# Altium schematic symbol library PDU_YEDEK.SchLib: 83 symbols (part 9 of 10)
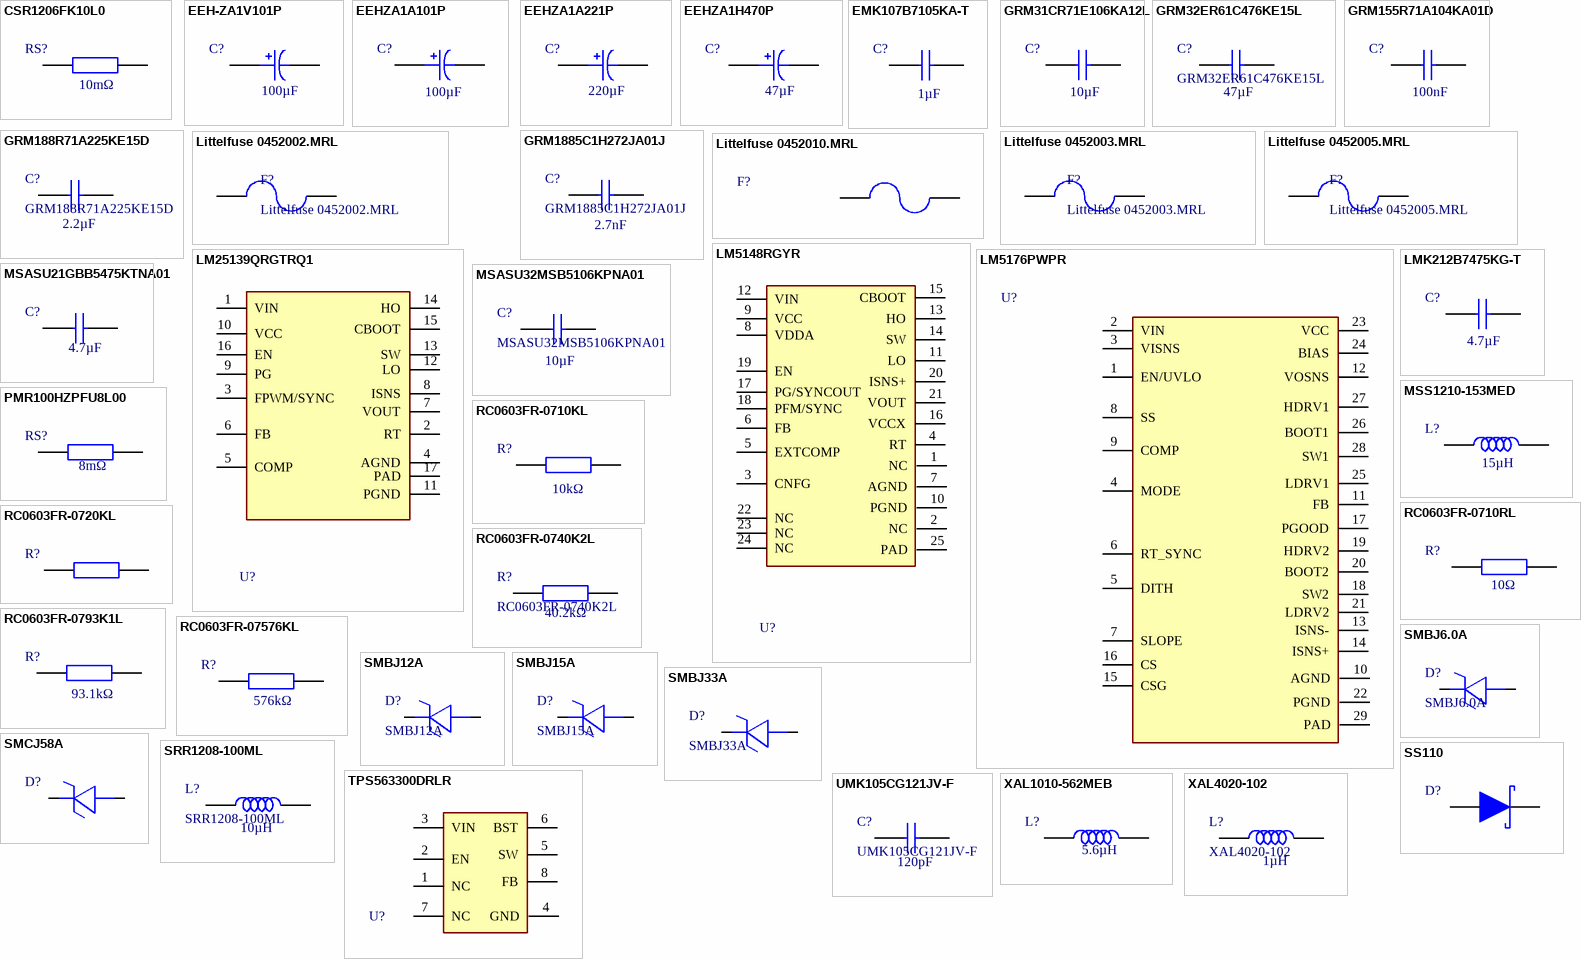
[diagram p10: symbols CSR1206FK10L0 to XAL4020‑102]

## RC0603FR-0793K1L
designator R?  value 93.1kΩ  (hidden comment: RC0603FR-0793K1L)
Res Thick Film 0603 93.1K Ohm 1% 0.1W(1/10W) ±100ppm/C Pad SMD T/R; Manufacturer: Yageo Group; Max Power Dissipation: 100mW; Temperature Coefficient: 100ppm/°C; Voltage Rating: 75V; Voltage Rating (DC): 50V; Supplier: Farnell; Supplier Part Number: RC0603FR-0793K1L; Manufacturer Part Number: RC0603FR-0793K1L; RoHS: Compliant; Category: Chip SMD Resistors; Stock: 4877; Pricing: 10=0,0061, 100=0,0052, 500=0,0049, 1000=0,0046, 2500=0,0036 (EUR); Case/Package: 0603; Case Code (Imperial): 0603; China RoHS: Non-Compliant; Composition: Thick Film; Contact Plating: Tin; Depth: 800µm; Features: Moisture Resistant; Height: 450µm; Lead Free: Lead Free; Length: 1.6mm; Lifecycle Status: Production; Max Operating Temperature: 155°C; Military Standard: Not; Min Operating Temperature: -55°C; Mounting Technology: Surface Mount; Number of Terminals: 2; Number of Terminations: 2; Packaging: Tape & Reel; Power Rating: 100mW; Radiation Hardening: No; REACH SVHC: Yes; Schedule B: 8533210045, 8533210045|8533210045|8533210045|8533210045|8533210045; Termination: SMD/SMT; Tolerance: 1%; Width: 800µm; Working Voltage: 75V; ComponentLink1URL: https://datasheet.octopart.com:443/RC0603FR-0793K1L-Yageo-datasheet-175887523.pdf?src-supplier=Newark; ComponentLink1Description: https://datasheet.octopart.com:443/RC0603FR-0793K1L-Yageo-datasheet-175887523.pdf?src-supplier=Newark; ComponentLink2URL: https://datasheet.octopart.com:443/RC0603FR-0793K1L-Yageo-datasheet-103092701.pdf?src-supplier=Upverter; ComponentLink2Description: https://datasheet.octopart.com:443/RC0603FR-0793K1L-Yageo-datasheet-103092701.pdf?src-supplier=Upverter; ComponentLink3URL: https://datasheet.octopart.com:443/RC0603FR-0793K1L-Yageo-datasheet-8328172.pdf?src-supplier=_legacy+Avnet; ComponentLink3Description: https://datasheet.octopart.com:443/RC0603FR-0793K1L-Yageo-datasheet-8328172.pdf?src-supplier=_legacy+Avnet; ComponentLink4URL: https://datasheet.octopart.com:443/RC0603FR-0793K1L-Yageo-Group-datasheet-176638170.pdf?src-supplier=Future+Electronics; ComponentLink4Description: https://datasheet.octopart.com:443/RC0603FR-0793K1L-Yageo-Group-datasheet-176638170.pdf?src-supplier=Future+Electronics; ComponentLink5URL: https://datasheet.octopart.com:443/RC0603FR-0793K1L-Yageo-datasheet-164759695.pdf?src-supplier=Future+Electronics; ComponentLink5Description: https://datasheet.octopart.com:443/RC0603FR-0793K1L-Yageo-datasheet-164759695.pdf?src-supplier=Future+Electronics; ComponentLink6URL: https://datasheet.octopart.com:443/RC0603FR-0793K1L-Yageo-datasheet-137700087.pdf?src-supplier=Future+Electronics; ComponentLink6Description: https://datasheet.octopart.com:443/RC0603FR-0793K1L-Yageo-datasheet-137700087.pdf?src-supplier=Future+Electronics; ComponentLink7URL: https://datasheet.octopart.com:443/RC0603FR-0793K1L-Yageo-datasheet-15599030.pdf?src-supplier=Future+Electronics; ComponentLink7Description: https://datasheet.octopart.com:443/RC0603FR-0793K1L-Yageo-datasheet-15599030.pdf?src-supplier=Future+Electronics; ComponentLink8URL: https://datasheet.octopart.com:443/RC0603FR-0793K1L-Yageo-datasheet-12596169.pdf?src-supplier=Future+Electronics; ComponentLink8Description: https://datasheet.octopart.com:443/RC0603FR-0793K1L-Yageo-datasheet-12596169.pdf?src-supplier=Future+Electronics; ComponentLink9URL: https://datasheet.octopart.com:443/RC0603FR-0793K1L-Yageo-datasheet-79472498.pdf?src-supplier=Megastar; ComponentLink9Description: https://datasheet.octopart.com:443/RC0603FR-0793K1L-Yageo-datasheet-79472498.pdf?src-supplier=Megastar; ComponentLink10URL: https://datasheet.octopart.com/RC0603FR-0793K1L-Yageo-datasheet-73766026.pdf; ComponentLink10Description: https://datasheet.octopart.com/RC0603FR-0793K1L-Yageo-datasheet-73766026.pdf; ComponentLink11URL: https://datasheet.octopart.com:443/RC0603FR-0793K1L-Yageo-datasheet-118562.pdf?src-supplier=DigiKey; ComponentLink11Description: https://datasheet.octopart.com:443/RC0603FR-0793K1L-Yageo-datasheet-118562.pdf?src-supplier=DigiKey; ComponentLink12URL: http://sigma.octopart.com:80/conflict_mineral_statement/Yageo-company-3.pdf?src-supplier=Compliance+Statements; ComponentLink12Description: http://sigma.octopart.com:80/conflict_mineral_statement/Yageo-company-3.pdf?src-supplier=Compliance+Statements; ComponentLink13URL: http://sigma.octopart.com:80/rohs_statement/Yageo-company-2.pdf?src-supplier=Compliance+Statements; ComponentLink13Description: http://sigma.octopart.com:80/rohs_statement/Yageo-company-2.pdf?src-supplier=Compliance+Statements
pins: 1, 2

## RC0603FR-07576KL
designator R?  value 576kΩ  (hidden comment: RC0603FR-07576KL)
Res Thick Film 0603 576K Ohm 1% 0.1W(1/10W) ±100ppm/C Pad SMD T/R; Manufacturer: Yageo Group; Max Power Dissipation: 100mW; Temperature Coefficient: 100ppm/°C; Voltage Rating: 75V; Voltage Rating (DC): 50V; Supplier: Farnell; Supplier Part Number: RC0603FR-07576KL; Manufacturer Part Number: RC0603FR-07576KL; RoHS: Compliant; Category: Chip SMD Resistors; Stock: 6680; Pricing: 10=0,0057, 100=0,0047, 500=0,0045, 1000=0,0044, 2500=0,0042 (EUR); Case/Package: 0603; Case Code (Imperial): 0603; China RoHS: Non-Compliant; Composition: Thick Film; Contact Plating: Tin; Depth: 800µm; Features: Moisture Resistant; Height: 450µm; Lead Free: Lead Free; Length: 1.6mm; Lifecycle Status: Production; Max Operating Temperature: 155°C; Military Standard: Not; Min Operating Temperature: -55°C; Mounting Technology: Surface Mount; Number of Terminals: 2; Number of Terminations: 2; Power Rating: 100mW; REACH SVHC: Yes; Schedule B: 8533210045, 8533210045|8533210045|8533210045|8533210045|8533210045|8533210045|8533210045|8533210045|8533210045|8533210045|8533210045|8533210045|8533210045, 8533210045|8533210045|8533210045|8533210045|8533210045|8533210045|8533210045|8533210045|8533210045|8533210045|8533210045|8533210045|8533210045|8533210045, 8533210045|8533210045|8533210045|8533210045|8533210045|8533210045|8533210045|8533210045|8533210045|8533210045|8533210045|8533210045|8533210045|8533210045|8533210045; Termination: SMD/SMT; Tolerance: 1%; Width: 800µm; Working Voltage: 75V; ComponentLink1URL: https://datasheet.octopart.com:443/RC0603FR-07576KL-Yageo-datasheet-175887523.pdf?src-supplier=IHS; ComponentLink1Description: https://datasheet.octopart.com:443/RC0603FR-07576KL-Yageo-datasheet-175887523.pdf?src-supplier=IHS; ComponentLink2URL: https://datasheet.octopart.com:443/RC0603FR-07576KL-Yageo-datasheet-103092701.pdf?src-supplier=Upverter; ComponentLink2Description: https://datasheet.octopart.com:443/RC0603FR-07576KL-Yageo-datasheet-103092701.pdf?src-supplier=Upverter; ComponentLink3URL: https://datasheet.octopart.com:443/RC0603FR-07576KL-Yageo-datasheet-8328172.pdf?src-supplier=_legacy+Avnet; ComponentLink3Description: https://datasheet.octopart.com:443/RC0603FR-07576KL-Yageo-datasheet-8328172.pdf?src-supplier=_legacy+Avnet; ComponentLink4URL: https://datasheet.octopart.com:443/RC0603FR-07576KL-Yageo-Group-datasheet-176638170.pdf?src-supplier=Future+Electronics; ComponentLink4Description: https://datasheet.octopart.com:443/RC0603FR-07576KL-Yageo-Group-datasheet-176638170.pdf?src-supplier=Future+Electronics; ComponentLink5URL: https://datasheet.octopart.com:443/RC0603FR-07576KL-Yageo-datasheet-164759695.pdf?src-supplier=Future+Electronics; ComponentLink5Description: https://datasheet.octopart.com:443/RC0603FR-07576KL-Yageo-datasheet-164759695.pdf?src-supplier=Future+Electronics; ComponentLink6URL: https://datasheet.octopart.com:443/RC0603FR-07576KL-Yageo-datasheet-127823281.pdf?src-supplier=Future+Electronics; ComponentLink6Description: https://datasheet.octopart.com:443/RC0603FR-07576KL-Yageo-datasheet-127823281.pdf?src-supplier=Future+Electronics; ComponentLink7URL: https://datasheet.octopart.com:443/RC0603FR-07576KL-Yageo-datasheet-137700087.pdf?src-supplier=Future+Electronics; ComponentLink7Description: https://datasheet.octopart.com:443/RC0603FR-07576KL-Yageo-datasheet-137700087.pdf?src-supplier=Future+Electronics; ComponentLink8URL: https://datasheet.octopart.com:443/RC0603FR-07576KL-Yageo-datasheet-17842380.pdf?src-supplier=Future+Electronics; ComponentLink8Description: https://datasheet.octopart.com:443/RC0603FR-07576KL-Yageo-datasheet-17842380.pdf?src-supplier=Future+Electronics; ComponentLink9URL: https://datasheet.octopart.com:443/RC0603FR-07576KL-Yageo-datasheet-15599030.pdf?src-supplier=Future+Electronics; ComponentLink9Description: https://datasheet.octopart.com:443/RC0603FR-07576KL-Yageo-datasheet-15599030.pdf?src-supplier=Future+Electronics; ComponentLink10URL: https://datasheet.octopart.com:443/RC0603FR-07576KL-Yageo-datasheet-12596169.pdf?src-supplier=Future+Electronics; ComponentLink10Description: https://datasheet.octopart.com:443/RC0603FR-07576KL-Yageo-datasheet-12596169.pdf?src-supplier=Future+Electronics; ComponentLink11URL: https://datasheet.octopart.com/RC0603FR-07576KL-Yageo-datasheet-73766026.pdf; ComponentLink11Description: https://datasheet.octopart.com/RC0603FR-07576KL-Yageo-datasheet-73766026.pdf; ComponentLink12URL: https://datasheet.octopart.com:443/RC0603FR-07576KL-Yageo-datasheet-118562.pdf?src-supplier=DigiKey; ComponentLink12Description: https://datasheet.octopart.com:443/RC0603FR-07576KL-Yageo-datasheet-118562.pdf?src-supplier=DigiKey; ComponentLink13URL: http://sigma.octopart.com:80/conflict_mineral_statement/Yageo-company-3.pdf?src-supplier=Compliance+Statements; ComponentLink13Description: http://sigma.octopart.com:80/conflict_mineral_statement/Yageo-company-3.pdf?src-supplier=Compliance+Statements; ComponentLink14URL: http://sigma.octopart.com:80/rohs_statement/Yageo-company-2.pdf?src-supplier=Compliance+Statements; ComponentLink14Description: http://sigma.octopart.com:80/rohs_statement/Yageo-company-2.pdf?src-supplier=Compliance+Statements
pins: 1, 2

## SMBJ6.0A
designator D?
SMBJ Series 10.3 V 0.6 kW Surface Mount Uni-Directional TVS Diode - DO-214AA; Manufacturer: Littelfuse; Breakdown Voltage: 7.02V; Clamping Voltage: 10.3V; Direction: Unidirectional; Element Configuration: Single; Forward Voltage: 3.5V; Leakage Current: 1µA; Max Breakdown Voltage: 7.37V; Max Junction Temperature (Tj): 150°C; Max Power Dissipation: 5W; Max Reverse Leakage Current: 800µA; Max Surge Current: 6.2A; Min Breakdown Voltage: 6.67V; Number of Channels: 1; Operating Supply Voltage: 60V; Peak Pulse Current: 58.3A; Peak Pulse Power: 600W; Power Line Protection: No; Reverse Breakdown Voltage: 66.7V; Reverse Standoff Voltage: 6V; Test Current: 10mA; Supplier: Farnell; Supplier Part Number: SMBJ6.0A; Manufacturer Part Number: SMBJ6.0A; RoHS: Compliant; Category: TVS Diodes; Stock: 3000; Pricing: 3000=0,127, 9000=0,111 (EUR); Case/Package: SMB; China RoHS: Non-Compliant; Composition: Zener; Height: 2.61mm; Lead Free: Lead Free; Length: 4.57mm; Lifecycle Status: Production; Max Operating Temperature: 150°C; Min Operating Temperature: -65°C; Mounting Technology: Surface Mount; Number of Elements: 1; Pins: 2; Number of Terminals: 2; Number of Unidirectional Channels: 1; Packaging: Tape & Reel; Peak Reverse Current: 800µA; Polarity: Unidirectional; Power Rating: 600W; Radiation Hardening: No; REACH SVHC: No; Reverse Voltage: 6V; Schedule B: 8541100080, 8541100080|8541100080|8541100080|8541100080|8541100080; Termination: SMD/SMT; Voltage Rating (DC): 6V; Width: 3.94mm; ComponentLink1URL: https://datasheet.octopart.com:443/SMBJ6.0A-Littelfuse-datasheet-180609570.pdf?src-supplier=IHS; ComponentLink1Description: https://datasheet.octopart.com:443/SMBJ6.0A-Littelfuse-datasheet-180609570.pdf?src-supplier=IHS; ComponentLink2URL: https://datasheet.octopart.com:443/SMBJ6.0A-Littelfuse-datasheet-98958142.pdf?src-supplier=Littelfuse+SCT; ComponentLink2Description: https://datasheet.octopart.com:443/SMBJ6.0A-Littelfuse-datasheet-98958142.pdf?src-supplier=Littelfuse+SCT; ComponentLink3URL: https://datasheet.octopart.com:443/SMBJ6.0A-Littelfuse-datasheet-10854588.pdf?src-supplier=TME; ComponentLink3Description: https://datasheet.octopart.com:443/SMBJ6.0A-Littelfuse-datasheet-10854588.pdf?src-supplier=TME; ComponentLink4URL: https://datasheet.octopart.com:443/SMBJ6.0A-Littelfuse-datasheet-123574.pdf?src-supplier=Farnell; ComponentLink4Description: https://datasheet.octopart.com:443/SMBJ6.0A-Littelfuse-datasheet-123574.pdf?src-supplier=Farnell; ComponentLink5URL: https://datasheet.octopart.com:443/SMBJ6.0A-Littelfuse-datasheet-63710821.pdf?src-supplier=Farnell; ComponentLink5Description: https://datasheet.octopart.com:443/SMBJ6.0A-Littelfuse-datasheet-63710821.pdf?src-supplier=Farnell; ComponentLink6URL: https://datasheet.octopart.com:443/SMBJ6.0A-Littelfuse-datasheet-145017494.pdf?src-supplier=element14+APAC; ComponentLink6Description: https://datasheet.octopart.com:443/SMBJ6.0A-Littelfuse-datasheet-145017494.pdf?src-supplier=element14+APAC; ComponentLink7URL: https://datasheet.octopart.com:443/SMBJ6.0A-Littelfuse-datasheet-165289144.pdf?src-supplier=Electro+Sonic; ComponentLink7Description: https://datasheet.octopart.com:443/SMBJ6.0A-Littelfuse-datasheet-165289144.pdf?src-supplier=Electro+Sonic; ComponentLink8URL: https://datasheet.octopart.com:443/SMBJ6.0A-Littelfuse-datasheet-27889791.pdf?src-supplier=Future+Electronics; ComponentLink8Description: https://datasheet.octopart.com:443/SMBJ6.0A-Littelfuse-datasheet-27889791.pdf?src-supplier=Future+Electronics; ComponentLink9URL: https://datasheet.octopart.com:443/SMBJ6.0A-Littelfuse-datasheet-5319440.pdf?src-supplier=Future+Electronics; ComponentLink9Description: https://datasheet.octopart.com:443/SMBJ6.0A-Littelfuse-datasheet-5319440.pdf?src-supplier=Future+Electronics; ComponentLink10URL: https://datasheet.octopart.com:443/SMBJ6.0A-Littelfuse-datasheet-11547152.pdf?src-supplier=Future+Electronics; ComponentLink10Description: https://datasheet.octopart.com:443/SMBJ6.0A-Littelfuse-datasheet-11547152.pdf?src-supplier=Future+Electronics; ComponentLink11URL: https://datasheet.octopart.com:443/SMBJ6.0A-Littelfuse-datasheet-5393952.pdf?src-supplier=Future+Electronics; ComponentLink11Description: https://datasheet.octopart.com:443/SMBJ6.0A-Littelfuse-datasheet-5393952.pdf?src-supplier=Future+Electronics; ComponentLink12URL: https://datasheet.octopart.com:443/SMBJ6.0A-Littelfuse-datasheet-511791.pdf?src-supplier=Future+Electronics; ComponentLink12Description: https://datasheet.octopart.com:443/SMBJ6.0A-Littelfuse-datasheet-511791.pdf?src-supplier=Future+Electronics; ComponentLink13URL: https://datasheet.octopart.com:443/SMBJ6.0A-Littelfuse-datasheet-871.pdf?src-supplier=DigiKey; ComponentLink13Description: https://datasheet.octopart.com:443/SMBJ6.0A-Littelfuse-datasheet-871.pdf?src-supplier=DigiKey; ComponentLink14URL: https://datasheet.octopart.com:443/SMBJ6.0A-Littelfuse-datasheet-22888.pdf?src-supplier=RS+(Formerly+Allied+Electronics); ComponentLink14Description: https://datasheet.octopart.com:443/SMBJ6.0A-Littelfuse-datasheet-22888.pdf?src-supplier=RS+(Formerly+Allied+Electronics)
pins: 1, 2

## SMBJ12A
designator D?
SMBJ Series 19.9 V 0.6 kW Surface Mount Uni-Directional TVS Diode - DO-214AA; Manufacturer: Littelfuse; Breakdown Voltage: 14V; Clamping Voltage: 19.9V; Direction: Unidirectional; Element Configuration: Single; ESD Protection: Yes; Forward Voltage: 3.5V; Leakage Current: 1µA; Max Breakdown Voltage: 14.7V; Max Junction Temperature (Tj): 150°C; Max Power Dissipation: 5W; Max Surge Current: 30.2A; Min Breakdown Voltage: 13.3V; Number of Channels: 1; Operating Supply Voltage: 12V; Peak Pulse Power: 600W; Power Line Protection: No; Test Current: 1mA; Supplier: Farnell; Supplier Part Number: SMBJ12A; Manufacturer Part Number: SMBJ12A; RoHS: Compliant; Category: TVS Diodes; Stock: 3078; Pricing: 5=0,285, 10=0,191, 100=0,168, 500=0,145, 1000=0,122, 5000=0,0993 (EUR); Case/Package: SMB; China RoHS: Non-Compliant; Composition: Zener; Country of Origin: Mainland China, Philippines; Export Control Classification Number (ECCN) Code: EAR99; Height: 2.61mm; Harmonized Tariff Schedule (HTS) Code: 8541.10.00.50; Introduction Date: 1996-01-01; Lead Free: Lead Free; Length: 4.5466mm; Lifecycle Status: Production; Max Operating Temperature: 150°C; Max Reverse Leakage Current: 1µA; Min Operating Temperature: -65°C; Mounting Technology: Surface Mount; Number of Elements: 1; Pins: 2; Number of Terminals: 2; Number of Unidirectional Channels: 1; Packaging: Cut Tape; Peak Pulse Current: 30.2A; Peak Reverse Current: 1µA; Polarity: Unidirectional; Power Rating: 600W; Radiation Hardening: No; REACH SVHC: No; Reverse Breakdown Voltage: 13.3V; Reverse Standoff Voltage: 12V; Reverse Voltage: 12V; Schedule B: 8541100080, 8541100080|8541100080|8541100080|8541100080|8541100080|8541100080|8541100080|8541100080|8541100080|8541100080|8541100080|8541100080|8541100080|8541100080|8541100080|8541100080|8541100080|8541100080|8541100080|8541100080|8541100080|8541100080|8541100080|85; Termination: SMD/SMT; Voltage Rating (DC): 12V; Width: 3.937mm; ComponentLink1URL: https://datasheet.octopart.com:443/SMBJ12A-Littelfuse-datasheet-180609570.pdf?src-supplier=IHS; ComponentLink1Description: https://datasheet.octopart.com:443/SMBJ12A-Littelfuse-datasheet-180609570.pdf?src-supplier=IHS; ComponentLink2URL: https://datasheet.octopart.com:443/SMBJ12A-Littelfuse-datasheet-98958142.pdf?src-supplier=Burklin+Elektronik; ComponentLink2Description: https://datasheet.octopart.com:443/SMBJ12A-Littelfuse-datasheet-98958142.pdf?src-supplier=Burklin+Elektronik; ComponentLink3URL: https://datasheet.octopart.com:443/SMBJ12A-Littelfuse-datasheet-46975802.pdf?src-supplier=Burklin+Elektronik; ComponentLink3Description: https://datasheet.octopart.com:443/SMBJ12A-Littelfuse-datasheet-46975802.pdf?src-supplier=Burklin+Elektronik; ComponentLink4URL: https://datasheet.octopart.com:443/SMBJ12A-Littelfuse-datasheet-10854588.pdf?src-supplier=element14+APAC; ComponentLink4Description: https://datasheet.octopart.com:443/SMBJ12A-Littelfuse-datasheet-10854588.pdf?src-supplier=element14+APAC; ComponentLink5URL: https://datasheet.octopart.com:443/SMBJ12A-Littelfuse-datasheet-63710821.pdf?src-supplier=element14+APAC; ComponentLink5Description: https://datasheet.octopart.com:443/SMBJ12A-Littelfuse-datasheet-63710821.pdf?src-supplier=element14+APAC; ComponentLink6URL: https://datasheet.octopart.com:443/SMBJ12A-Littelfuse-datasheet-5319440.pdf?src-supplier=element14+APAC; ComponentLink6Description: https://datasheet.octopart.com:443/SMBJ12A-Littelfuse-datasheet-5319440.pdf?src-supplier=element14+APAC; ComponentLink7URL: https://datasheet.octopart.com:443/SMBJ12A-Littelfuse-datasheet-145017494.pdf?src-supplier=Farnell; ComponentLink7Description: https://datasheet.octopart.com:443/SMBJ12A-Littelfuse-datasheet-145017494.pdf?src-supplier=Farnell; ComponentLink8URL: https://datasheet.octopart.com:443/SMBJ12A-Littelfuse-datasheet-123574.pdf?src-supplier=Farnell; ComponentLink8Description: https://datasheet.octopart.com:443/SMBJ12A-Littelfuse-datasheet-123574.pdf?src-supplier=Farnell; ComponentLink9URL: https://datasheet.octopart.com:443/SMBJ12A-Littelfuse-datasheet-871.pdf?src-supplier=DigiKey; ComponentLink9Description: https://datasheet.octopart.com:443/SMBJ12A-Littelfuse-datasheet-871.pdf?src-supplier=DigiKey; ComponentLink10URL: https://datasheet.octopart.com:443/SMBJ12A-Littelfuse-datasheet-170904961.pdf?src-supplier=Future+Electronics; ComponentLink10Description: https://datasheet.octopart.com:443/SMBJ12A-Littelfuse-datasheet-170904961.pdf?src-supplier=Future+Electronics; ComponentLink11URL: https://datasheet.octopart.com:443/SMBJ12A-Littelfuse-datasheet-27889791.pdf?src-supplier=Fuses+Unlimited; ComponentLink11Description: https://datasheet.octopart.com:443/SMBJ12A-Littelfuse-datasheet-27889791.pdf?src-supplier=Fuses+Unlimited; ComponentLink12URL: https://datasheet.octopart.com:443/SMBJ12A-Littelfuse-datasheet-9813940.pdf?src-supplier=RS+(Formerly+Allied+Electronics); ComponentLink12Description: https://datasheet.octopart.com:443/SMBJ12A-Littelfuse-datasheet-9813940.pdf?src-supplier=RS+(Formerly+Allied+Electronics); ComponentLink13URL: https://datasheet.octopart.com:443/SMBJ12A-Littelfuse-datasheet-22888.pdf?src-supplier=RS+(Formerly+Allied+Electronics); ComponentLink13Description: https://datasheet.octopart.com:443/SMBJ12A-Littelfuse-datasheet-22888.pdf?src-supplier=RS+(Formerly+Allied+Electronics); ComponentLink14URL: https://datasheet.octopart.com:443/SMBJ12A-Littelfuse-datasheet-10521649.pdf?src-supplier=Jameco; ComponentLink14Description: https://datasheet.octopart.com:443/SMBJ12A-Littelfuse-datasheet-10521649.pdf?src-supplier=Jameco; ComponentLink15URL: https://datasheet.octopart.com:443/SMBJ12A-Littelfuse-datasheet-11045459.pdf?src-supplier=Newark; ComponentLink15Description: https://datasheet.octopart.com:443/SMBJ12A-Littelfuse-datasheet-11045459.pdf?src-supplier=Newark
pins: 1, 2

## SMBJ15A
designator D?
TVS Diode, SMBJ, Unidirectional, 15 V, 24.4 V, DO-214AA (SMB), 2 Pins; Manufacturer: Bourns; Breakdown Voltage: 17.6V; Clamping Voltage: 24.4V; Element Configuration: Single; ESD Protection: Yes; Leakage Current: 5µA; Max Breakdown Voltage: 18.5V; Max Junction Temperature (Tj): 150°C; Max Power Dissipation: 5W; Max Surge Current: 100A; Min Breakdown Voltage: 16.7V; Number of Channels: 1; Peak Pulse Current: 24.6A; Peak Pulse Power: 600W; Power Line Protection: No; Reverse Standoff Voltage: 15V; Test Current: 1mA; Supplier: Arrow Electronics; Supplier Part Number: SMBJ15A; Manufacturer Part Number: SMBJ15A; RoHS: Compliant; Category: TVS Diodes; Stock: 36000; Pricing: 3000=0,0852 (USD); Case/Package: SMB; China RoHS: Non-Compliant; Composition: Zener; Country of Origin: Taiwan; Direction: Unidirectional; Export Control Classification Number (ECCN) Code: EAR99; Height: 2.44mm; Harmonized Tariff Schedule (HTS) Code: 8541.10.00.50; Introduction Date: 2010-02-23; Length: 4.57mm; Lifecycle Status: Production; Max Operating Temperature: 150°C; Max Reverse Leakage Current: 5µA; Min Operating Temperature: -55°C; Mounting Technology: Surface Mount; Number of Elements: 1; Pins: 2; Number of Terminals: 2; Number of Unidirectional Channels: 1; Packaging: Tape & Reel; Polarity: Unidirectional; Power Rating: 600W; Radiation Hardening: No; REACH SVHC: No; Reverse Breakdown Voltage: 16.7V; Schedule B: 8541100080; Termination: SMD/SMT; Width: 3.94mm; ComponentLink1URL: https://datasheet.octopart.com:443/SMBJ15A-Bourns-datasheet-179980059.pdf?src-supplier=TME; ComponentLink1Description: https://datasheet.octopart.com:443/SMBJ15A-Bourns-datasheet-179980059.pdf?src-supplier=TME; ComponentLink2URL: https://datasheet.octopart.com:443/SMBJ15A-Bourns-datasheet-12567566.pdf?src-supplier=Burklin+Elektronik; ComponentLink2Description: https://datasheet.octopart.com:443/SMBJ15A-Bourns-datasheet-12567566.pdf?src-supplier=Burklin+Elektronik; ComponentLink3URL: https://datasheet.octopart.com:443/SMBJ15A-Bourns-datasheet-165058450.pdf?src-supplier=Burklin+Elektronik; ComponentLink3Description: https://datasheet.octopart.com:443/SMBJ15A-Bourns-datasheet-165058450.pdf?src-supplier=Burklin+Elektronik; ComponentLink4URL: https://datasheet.octopart.com:443/SMBJ15A-Bourns-datasheet-94099898.pdf?src-supplier=element14+APAC; ComponentLink4Description: https://datasheet.octopart.com:443/SMBJ15A-Bourns-datasheet-94099898.pdf?src-supplier=element14+APAC; ComponentLink5URL: https://datasheet.octopart.com:443/SMBJ15A-Bourns-datasheet-34433208.pdf?src-supplier=Newark; ComponentLink5Description: https://datasheet.octopart.com:443/SMBJ15A-Bourns-datasheet-34433208.pdf?src-supplier=Newark; ComponentLink6URL: https://datasheet.octopart.com:443/SMBJ15A-Bourns-datasheet-154729896.pdf?src-supplier=Electro+Sonic; ComponentLink6Description: https://datasheet.octopart.com:443/SMBJ15A-Bourns-datasheet-154729896.pdf?src-supplier=Electro+Sonic; ComponentLink7URL: https://datasheet.octopart.com:443/SMBJ15A-Bourns-datasheet-10292148.pdf?src-supplier=element14; ComponentLink7Description: https://datasheet.octopart.com:443/SMBJ15A-Bourns-datasheet-10292148.pdf?src-supplier=element14; ComponentLink8URL: https://datasheet.octopart.com:443/SMBJ15A-Bourns-datasheet-42429174.pdf?src-supplier=RS+(Formerly+Allied+Electronics); ComponentLink8Description: https://datasheet.octopart.com:443/SMBJ15A-Bourns-datasheet-42429174.pdf?src-supplier=RS+(Formerly+Allied+Electronics); ComponentLink9URL: https://datasheet.octopart.com:443/SMBJ15A-Bourns-datasheet-14047909.pdf?src-supplier=iiiC; ComponentLink9Description: https://datasheet.octopart.com:443/SMBJ15A-Bourns-datasheet-14047909.pdf?src-supplier=iiiC; ComponentLink10URL: http://sigma.octopart.com:80/conflict_mineral_statement/Bourns-company-36.pdf?src-supplier=Compliance+Statements; ComponentLink10Description: http://sigma.octopart.com:80/conflict_mineral_statement/Bourns-company-36.pdf?src-supplier=Compliance+Statements
pins: 1, 2

## SMBJ33A
designator D?
SMBJ Series 53.3 V 0.6 kW Surface Mount Uni-Directional TVS Diode - DO-214AA; Manufacturer: Littelfuse; Breakdown Voltage: 38.65V; Clamping Voltage: 53.3V; Direction: Unidirectional; Element Configuration: Single; Forward Voltage: 3.5V; Leakage Current: 1µA; Max Breakdown Voltage: 40.6V; Max Junction Temperature (Tj): 150°C; Max Power Dissipation: 5W; Max Surge Current: 11.3A; Min Breakdown Voltage: 36.7V; Number of Channels: 1; Operating Supply Voltage: 33V; Peak Pulse Power: 600W; Power Line Protection: No; Test Current: 1mA; Supplier: Farnell; Supplier Part Number: SMBJ33A; Manufacturer Part Number: SMBJ33A; RoHS: Compliant; Category: TVS Diodes; Stock: 4121; Pricing: 5=0,26, 10=0,175, 100=0,158, 500=0,14, 1000=0,123, 5000=0,105 (EUR); Case/Package: SMB; China RoHS: Non-Compliant; Composition: Zener; Country of Origin: Mainland China, Philippines; Export Control Classification Number (ECCN) Code: EAR99; Height: 2.61mm; Harmonized Tariff Schedule (HTS) Code: 8541.10.00.50; Introduction Date: 1996-01-01; Lead Free: Lead Free; Length: 4.57mm; Lifecycle Status: Production; Max Operating Temperature: 150°C; Max Reverse Leakage Current: 1µA; Min Operating Temperature: -65°C; Mounting Technology: Surface Mount; Number of Elements: 1; Pins: 2; Number of Terminals: 2; Number of Unidirectional Channels: 1; Packaging: Tape & Reel; Peak Pulse Current: 11.3A; Peak Reverse Current: 1µA; Polarity: Unidirectional; Power Rating: 600W; Radiation Hardening: No; REACH SVHC: No; Reverse Breakdown Voltage: 36.7V; Reverse Standoff Voltage: 33V; Reverse Voltage: 33V; Schedule B: 8541100080, 8541100080|8541100080|8541100080|8541100080|8541100080|8541100080|8541100080|8541100080|8541100080|8541100080|8541100080|8541100080|8541100080|8541100080|8541100080|8541100080|8541100080|8541100080|8541100080|8541100080|8541100080|8541100080|8541100080|85; Termination: SMD/SMT; Voltage Rating (DC): 33V; Width: 3.94mm; ComponentLink1URL: https://datasheet.octopart.com:443/SMBJ33A-Littelfuse-datasheet-180609570.pdf?src-supplier=IHS; ComponentLink1Description: https://datasheet.octopart.com:443/SMBJ33A-Littelfuse-datasheet-180609570.pdf?src-supplier=IHS; ComponentLink2URL: https://datasheet.octopart.com:443/SMBJ33A-Littelfuse-datasheet-98958142.pdf?src-supplier=Littelfuse+SCT; ComponentLink2Description: https://datasheet.octopart.com:443/SMBJ33A-Littelfuse-datasheet-98958142.pdf?src-supplier=Littelfuse+SCT; ComponentLink3URL: https://datasheet.octopart.com:443/SMBJ33A-Littelfuse-datasheet-10854588.pdf?src-supplier=element14+APAC; ComponentLink3Description: https://datasheet.octopart.com:443/SMBJ33A-Littelfuse-datasheet-10854588.pdf?src-supplier=element14+APAC; ComponentLink4URL: https://datasheet.octopart.com:443/SMBJ33A-Littelfuse-datasheet-5319440.pdf?src-supplier=element14+APAC; ComponentLink4Description: https://datasheet.octopart.com:443/SMBJ33A-Littelfuse-datasheet-5319440.pdf?src-supplier=element14+APAC; ComponentLink5URL: https://datasheet.octopart.com:443/SMBJ33A-Littelfuse-datasheet-145017494.pdf?src-supplier=Farnell; ComponentLink5Description: https://datasheet.octopart.com:443/SMBJ33A-Littelfuse-datasheet-145017494.pdf?src-supplier=Farnell; ComponentLink6URL: https://datasheet.octopart.com:443/SMBJ33A-Littelfuse-datasheet-63710821.pdf?src-supplier=Farnell; ComponentLink6Description: https://datasheet.octopart.com:443/SMBJ33A-Littelfuse-datasheet-63710821.pdf?src-supplier=Farnell; ComponentLink7URL: https://datasheet.octopart.com:443/SMBJ33A-Littelfuse-datasheet-170904961.pdf?src-supplier=Future+Electronics; ComponentLink7Description: https://datasheet.octopart.com:443/SMBJ33A-Littelfuse-datasheet-170904961.pdf?src-supplier=Future+Electronics; ComponentLink8URL: https://datasheet.octopart.com:443/SMBJ33A-Littelfuse-datasheet-27889791.pdf?src-supplier=Fuses+Unlimited; ComponentLink8Description: https://datasheet.octopart.com:443/SMBJ33A-Littelfuse-datasheet-27889791.pdf?src-supplier=Fuses+Unlimited; ComponentLink9URL: https://datasheet.octopart.com:443/SMBJ33A-Littelfuse-datasheet-871.pdf?src-supplier=DigiKey; ComponentLink9Description: https://datasheet.octopart.com:443/SMBJ33A-Littelfuse-datasheet-871.pdf?src-supplier=DigiKey
pins: 1, 2

## SMCJ58A
designator D?  (value not drawn)
Diode TVS Single Uni-Directional 58V 1.5kW 2-Pin DO-214AB; Manufacturer: Taiwan Semiconductor; Manufacturer Lifecycle Status: ACTIVE; Breakdown Voltage: 67.8V; Clamping Voltage: 93.6V; Forward Voltage: 1V; Max Breakdown Voltage: 71.2V; Max Forward Surge Current (Ifsm): 2.5A; Max Junction Temperature (Tj): 150°C; Max Power Dissipation: 5W; Max Repetitive Reverse Voltage (Vrrm): 250V; Max Reverse Leakage Current: 1µA; Max Surge Current: 200A; Min Breakdown Voltage: 64.4V; Number of Channels: 1; Peak Pulse Current: 16A; Polarity: Unidirectional; Power Dissipation: 200mW; Reverse Recovery Time: 50ns; Supplier: Farnell; Supplier Part Number: SMCJ58A; Manufacturer Part Number: SMCJ58A; RoHS: Compliant; Category: TVS Diodes; Stock: 274; Pricing: 1=0,594, 10=0,49, 100=0,342, 500=0,331, 1000=0,32, 5000=0,309 (EUR); China RoHS: Non-Compliant; Country of Origin: Mainland China, Taiwan; Export Control Classification Number (ECCN) Code: EAR99; Height: 2.62mm; Harmonized Tariff Schedule (HTS) Code: 8541.10.00.50; Introduction Date: 1998-01-21; Lead Free: Lead Free; Length: 7.11mm; Lifecycle Status: Production; Max Operating Temperature: 150°C; Min Operating Temperature: -55°C; Number of Elements: 1; Pins: 2; Number of Terminals: 2; Operating Supply Voltage: 58V; Peak Pulse Power: 1.5kW; Power Rating: 1.5kW; REACH SVHC: No; Reverse Standoff Voltage: 58V; Schedule B: 8541100080; Voltage Rating (DC): 58V; Width: 6.22mm; ComponentLink1URL: https://datasheet.octopart.com:443/SMCJ58A-Taiwan-Semiconductor-datasheet-151942226.pdf?src-supplier=TME; ComponentLink1Description: https://datasheet.octopart.com:443/SMCJ58A-Taiwan-Semiconductor-datasheet-151942226.pdf?src-supplier=TME; ComponentLink2URL: https://datasheet.octopart.com:443/SMCJ58A-Taiwan-Semiconductor-datasheet-181551142.pdf?src-supplier=IHS; ComponentLink2Description: https://datasheet.octopart.com:443/SMCJ58A-Taiwan-Semiconductor-datasheet-181551142.pdf?src-supplier=IHS; ComponentLink3URL: https://datasheet.octopart.com:443/SMCJ58A-Taiwan-Semiconductor-datasheet-182396156.pdf?src-supplier=IHS; ComponentLink3Description: https://datasheet.octopart.com:443/SMCJ58A-Taiwan-Semiconductor-datasheet-182396156.pdf?src-supplier=IHS; ComponentLink4URL: https://datasheet.octopart.com:443/SMCJ58A-Taiwan-Semiconductor-datasheet-180789152.pdf?src-supplier=IHS; ComponentLink4Description: https://datasheet.octopart.com:443/SMCJ58A-Taiwan-Semiconductor-datasheet-180789152.pdf?src-supplier=IHS; ComponentLink5URL: https://datasheet.octopart.com:443/SMCJ58A-Taiwan-Semiconductor-datasheet-137249697.pdf?src-supplier=Taiwan+Semiconductor; ComponentLink5Description: https://datasheet.octopart.com:443/SMCJ58A-Taiwan-Semiconductor-datasheet-137249697.pdf?src-supplier=Taiwan+Semiconductor; ComponentLink6URL: https://datasheet.octopart.com:443/SMCJ58A-Taiwan-Semiconductor-datasheet-34355355.pdf?src-supplier=Taiwan+Semiconductor; ComponentLink6Description: https://datasheet.octopart.com:443/SMCJ58A-Taiwan-Semiconductor-datasheet-34355355.pdf?src-supplier=Taiwan+Semiconductor; ComponentLink7URL: https://datasheet.octopart.com:443/SMCJ58A-Taiwan-Semiconductor-datasheet-65933527.pdf?src-supplier=Future+Electronics; ComponentLink7Description: https://datasheet.octopart.com:443/SMCJ58A-Taiwan-Semiconductor-datasheet-65933527.pdf?src-supplier=Future+Electronics
pins: 1, 2

## SRR1208-100ML
designator L?  value 10µH
Inductor Power Shielded Wirewound 10uH 20% 1KHz 20Q-Factor Ferrite 5A 0.021Ohm DCR T/R; Manufacturer: Bourns; DC Resistance (DCR): 21mΩ; Frequency: 15MHz; Material: Steel; Number of Circuits: 1; Q Factor: 20; Saturation Current: 6.7A; Supplier: Farnell; Supplier Part Number: SRR1208-100ML; Manufacturer Part Number: SRR1208-100ML; RoHS: Compliant; Category: Fixed Inductors; Stock: 4863; Pricing: 1=0,771, 10=0,653, 50=0,619, 100=0,551, 200=0,54 (EUR); Case/Package: 5050; China RoHS: Compliant; Composition: Wirewound; Core Material: Ferrite; Country of Origin: Mainland China; Current Rating: 5A; DC Current: 5A; Depth: 13mm; Export Control Classification Number (ECCN) Code: EAR99; Height: 8.5mm; Height - Seated (Max): 8.509mm; Harmonized Tariff Schedule (HTS) Code: 8504.50.80.00; Inductance Tolerance: 20%; Introduction Date: 2004-11-10; Length: 12.7mm; Lifecycle Status: Production; Max Current Rating: 5A; Max DC Current: 5A; Max Operating Temperature: 125°C; Military Standard: Not; Min Operating Temperature: -40°C; Mounting Technology: Surface Mount; Pins: 2; Number of Terminals: 2; REACH SVHC: Yes; Schedule B: 8504500000, 8504500000|8504500000, 8504500000|8504500000|8504500000, 8504500000|8504500000|8504500000|8504500000; Self Resonant Frequency: 15MHz; Shielding: Shielded; Termination: SMD/SMT; Test Frequency: 1kHz; Tolerance: 20%; Width: 12.7mm; ComponentLink1URL: https://datasheet.octopart.com:443/SRR1208-100ML-Bourns-datasheet-154729978.pdf?src-supplier=Newark; ComponentLink1Description: https://datasheet.octopart.com:443/SRR1208-100ML-Bourns-datasheet-154729978.pdf?src-supplier=Newark; ComponentLink2URL: https://datasheet.octopart.com:443/SRR1208-100ML-Bourns-datasheet-68307255.pdf?src-supplier=Newark; ComponentLink2Description: https://datasheet.octopart.com:443/SRR1208-100ML-Bourns-datasheet-68307255.pdf?src-supplier=Newark; ComponentLink3URL: https://datasheet.octopart.com:443/SRR1208-100ML-Bourns-datasheet-99355712.pdf?src-supplier=Newark; ComponentLink3Description: https://datasheet.octopart.com:443/SRR1208-100ML-Bourns-datasheet-99355712.pdf?src-supplier=Newark; ComponentLink4URL: https://datasheet.octopart.com:443/SRR1208-100ML-Bourns-datasheet-5459063.pdf?src-supplier=Newark; ComponentLink4Description: https://datasheet.octopart.com:443/SRR1208-100ML-Bourns-datasheet-5459063.pdf?src-supplier=Newark; ComponentLink5URL: https://datasheet.octopart.com:443/SRR1208-100ML-Bourns-datasheet-11548354.pdf?src-supplier=Farnell; ComponentLink5Description: https://datasheet.octopart.com:443/SRR1208-100ML-Bourns-datasheet-11548354.pdf?src-supplier=Farnell; ComponentLink6URL: https://datasheet.octopart.com:443/SRR1208-100ML-Bourns-datasheet-62333742.pdf?src-supplier=Farnell; ComponentLink6Description: https://datasheet.octopart.com:443/SRR1208-100ML-Bourns-datasheet-62333742.pdf?src-supplier=Farnell; ComponentLink7URL: https://datasheet.octopart.com:443/SRR1208-100ML-Bourns-datasheet-41338362.pdf?src-supplier=RS+(Formerly+Allied+Electronics); ComponentLink7Description: https://datasheet.octopart.com:443/SRR1208-100ML-Bourns-datasheet-41338362.pdf?src-supplier=RS+(Formerly+Allied+Electronics); ComponentLink8URL: https://datasheet.octopart.com:443/SRR1208-100ML-Bourns-datasheet-37486976.pdf?src-supplier=RS+(Formerly+Allied+Electronics); ComponentLink8Description: https://datasheet.octopart.com:443/SRR1208-100ML-Bourns-datasheet-37486976.pdf?src-supplier=RS+(Formerly+Allied+Electronics); ComponentLink9URL: https://datasheet.octopart.com:443/SRR1208-100ML-Bourns-datasheet-56155.pdf?src-supplier=RS+(Formerly+Allied+Electronics); ComponentLink9Description: https://datasheet.octopart.com:443/SRR1208-100ML-Bourns-datasheet-56155.pdf?src-supplier=RS+(Formerly+Allied+Electronics); ComponentLink10URL: http://sigma.octopart.com:80/conflict_mineral_statement/Bourns-company-36.pdf?src-supplier=Compliance+Statements; ComponentLink10Description: http://sigma.octopart.com:80/conflict_mineral_statement/Bourns-company-36.pdf?src-supplier=Compliance+Statements
pins: 1, 2

## SS110
designator D?  (value not drawn)
Rectifier Diode, Schottky, 1 Phase, 1 Element, 1A, 100V V(RRM), Silicon; Manufacturer: Taiwan Semiconductor; Manufacturer Lifecycle Status: ACTIVE; Forward Voltage: 800mV; Max Forward Surge Current (Ifsm): 40A; Max Junction Temperature (Tj): 150°C; Max Reverse Leakage Current: 100µA; Number of Elements: 1; Power Dissipation: 400mW; Reverse Recovery Time: 25ns; Supplier: Farnell; Supplier Part Number: SS110; Manufacturer Part Number: SS110; RoHS: Compliant; Category: Schottky Diodes; Stock: 13064; Pricing: 5=0,296, 10=0,19, 100=0,124, 500=0,0917, 1000=0,0726, 5000=0,064 (EUR); Case/Package: SMD/SMT; China RoHS: Non-Compliant; Contact Plating: Tin; Country of Origin: Mainland China, Taiwan; Export Control Classification Number (ECCN) Code: EAR99; Forward Current: 1A; Harmonized Tariff Schedule (HTS) Code: 8541.10.00.80; Introduction Date: 1998-08-01; Lifecycle Status: Production; Max Operating Temperature: 150°C; Max Output current: 1A; Max Repetitive Reverse Voltage (Vrrm): 100V; Min Breakdown Voltage: 100V; Min Operating Temperature: -65°C; Number of Terminals: 2; Packaging: Cut Tape; Peak Reverse Current: 100µA; REACH SVHC: No; Reverse Standoff Voltage: 100V; ComponentLink1URL: https://datasheet.octopart.com:443/SS110-Taiwan-Semiconductor-datasheet-179284502.pdf?src-supplier=IHS; ComponentLink1Description: https://datasheet.octopart.com:443/SS110-Taiwan-Semiconductor-datasheet-179284502.pdf?src-supplier=IHS; ComponentLink2URL: https://datasheet.octopart.com:443/SS110-Taiwan-Semiconductor-datasheet-181551144.pdf?src-supplier=IHS; ComponentLink2Description: https://datasheet.octopart.com:443/SS110-Taiwan-Semiconductor-datasheet-181551144.pdf?src-supplier=IHS; ComponentLink3URL: https://datasheet.octopart.com:443/SS110-Taiwan-Semiconductor-datasheet-180789182.pdf?src-supplier=IHS; ComponentLink3Description: https://datasheet.octopart.com:443/SS110-Taiwan-Semiconductor-datasheet-180789182.pdf?src-supplier=IHS; ComponentLink4URL: https://datasheet.octopart.com:443/SS110-Taiwan-Semiconductor-datasheet-68472387.pdf?src-supplier=Taiwan+Semiconductor; ComponentLink4Description: https://datasheet.octopart.com:443/SS110-Taiwan-Semiconductor-datasheet-68472387.pdf?src-supplier=Taiwan+Semiconductor; ComponentLink5URL: https://datasheet.octopart.com:443/SS110-Taiwan-Semiconductor-datasheet-34355587.pdf?src-supplier=Taiwan+Semiconductor; ComponentLink5Description: https://datasheet.octopart.com:443/SS110-Taiwan-Semiconductor-datasheet-34355587.pdf?src-supplier=Taiwan+Semiconductor; ComponentLink6URL: https://datasheet.octopart.com:443/SS110-Taiwan-Semiconductor-datasheet-152739498.pdf?src-supplier=ODG+(Origin+Data+Global); ComponentLink6Description: https://datasheet.octopart.com:443/SS110-Taiwan-Semiconductor-datasheet-152739498.pdf?src-supplier=ODG+(Origin+Data+Global); ComponentLink7URL: https://datasheet.octopart.com:443/SS110-Taiwan-Semiconductor-datasheet-13727340.pdf?src-supplier=Farnell; ComponentLink7Description: https://datasheet.octopart.com:443/SS110-Taiwan-Semiconductor-datasheet-13727340.pdf?src-supplier=Farnell; ComponentLink8URL: https://datasheet.octopart.com:443/SS110-Taiwan-Semiconductor-datasheet-510275.pdf?src-supplier=Newark; ComponentLink8Description: https://datasheet.octopart.com:443/SS110-Taiwan-Semiconductor-datasheet-510275.pdf?src-supplier=Newark
pins: 1 Anode (power), 2 Cathode (power)

## TPS563300DRLR
designator U?  (value not drawn)
3.8-V to 28-V Input, 3-A synchronous buck converter in SOT-583 package 8-SOT-5X3 -40 to 150; Manufacturer: Texas Instruments; Manufacturer Lifecycle Status: ACTIVE; Supplier: Mouser; Supplier Part Number: 595-TPS563300DRLR; Manufacturer Part Number: TPS563300DRLR; RoHS: Compliant; Category: Voltage Regulators - Switching; Stock: 32724; Pricing: 1=1,32, 10=0,956, 50=0,864, 100=0,762, 1000=0,605, 10000=0,531 (USD); Height: 0m; Length: 2.1mm; Lifecycle Status: Production; Pins: 8; Thickness: 550µm; Topology: Buck; Width: 1.2mm; ComponentLink1URL: https://sigma.octopart.com:443/184160452/technical_drawing/Texas-Instruments-TPS563300DRLR.pdf?src-supplier=Texas+Instruments; ComponentLink1Description: https://sigma.octopart.com:443/184160452/technical_drawing/Texas-Instruments-TPS563300DRLR.pdf?src-supplier=Texas+Instruments; ComponentLink2URL: https://octopart.com:443/opatz8j6/c1?t=xatpEYDGIma3GWOGr9dSa4ETkpKnF2SQQa13bM9aBU7KxWKWjVvMG3OPAuux2PU110RkBH42izBS6LQikCKLapn2aXxzoaBnKyQv6nxenhgHckViipDy1bQp576I8K_6VNlc5vIfTlftyYntTgTTchaaEZUGX-QlB6H4FcZbf9QiACksJe2cvrVzl7ha9aT0dFxNxtO1rifgiUUvS9aKQPq8xHoc_jRZa0IMvCz_1WpyurF6xnm4nw4x1HnPVrE7nKBo3o6VYz8s45vJQula6-TlgbN471KnlcUrcyjw7J9yvMadwJHAulvEz1WOv1H4BbQVsLOSbcIeQMVCaHMcaU52k2MGaSgAor6JMwICFe1qviFLaeeRGWmBODRvWzrX-l5DBmed0Tw&src-supplier=Texas+Instruments; ComponentLink2Description: https://octopart.com:443/opatz8j6/c1?t=xatpEYDGIma3GWOGr9dSa4ETkpKnF2SQQa13bM9aBU7KxWKWjVvMG3OPAuux2PU110RkBH42izBS6LQikCKLapn2aXxzoaBnKyQv6nxenhgHckViipDy1bQp576I8K_6VNlc5vIfTlftyYntTgTTchaaEZUGX-QlB6H4FcZbf9QiACksJe2cvrVzl7ha9aT0dFxNxtO1rifgiUUvS9aKQPq8xHoc_jRZa0IMvCz_1WpyurF6xnm4nw4x1HnPVrE7nKBo3o6VYz8s45vJQula6-TlgbN471KnlcUrcyjw7J9yvMadwJHAulvEz1WOv1H4BbQVsLOSbcIeQMVCaHMcaU52k2MGaSgAor6JMwICFe1qviFLaeeRGWmBODRvWzrX-l5DBmed0Tw&src-supplier=Texas+Instruments; ComponentLink3URL: https://sigma.octopart.com:443/182665545/technical_drawing/Texas-Instruments-TPS563300DRLR.pdf?src-supplier=Texas+Instruments; ComponentLink3Description: https://sigma.octopart.com:443/182665545/technical_drawing/Texas-Instruments-TPS563300DRLR.pdf?src-supplier=Texas+Instruments; ComponentLink4URL: https://sigma.octopart.com:443/158891806/technical_drawing/Texas-Instruments-TPS563300DRLR.pdf?src-supplier=Texas+Instruments; ComponentLink4Description: https://sigma.octopart.com:443/158891806/technical_drawing/Texas-Instruments-TPS563300DRLR.pdf?src-supplier=Texas+Instruments; ComponentLink5URL: https://datasheet.octopart.com:443/TPS563300DRLR-Texas-Instruments-datasheet-179559971.pdf?src-supplier=LCSC; ComponentLink5Description: https://datasheet.octopart.com:443/TPS563300DRLR-Texas-Instruments-datasheet-179559971.pdf?src-supplier=LCSC; ComponentLink6URL: http://sigma.octopart.com:80/reach_statement/Texas-Instruments-company-64.pdf?src-supplier=Compliance+Statements; ComponentLink6Description: http://sigma.octopart.com:80/reach_statement/Texas-Instruments-company-64.pdf?src-supplier=Compliance+Statements; ComponentLink7URL: http://sigma.octopart.com:80/conflict_mineral_statement/Texas-Instruments-company-63.pdf?src-supplier=Compliance+Statements; ComponentLink7Description: http://sigma.octopart.com:80/conflict_mineral_statement/Texas-Instruments-company-63.pdf?src-supplier=Compliance+Statements
pins: 1 NC, 2 EN, 3 VIN, 4 GND, 5 SW, 6 BST, 7 NC, 8 FB